# Altium schematic symbol library other_modules.SchLib: 4 symbols
Pins are listed as number, name and electrical type; pins without a type are passive.

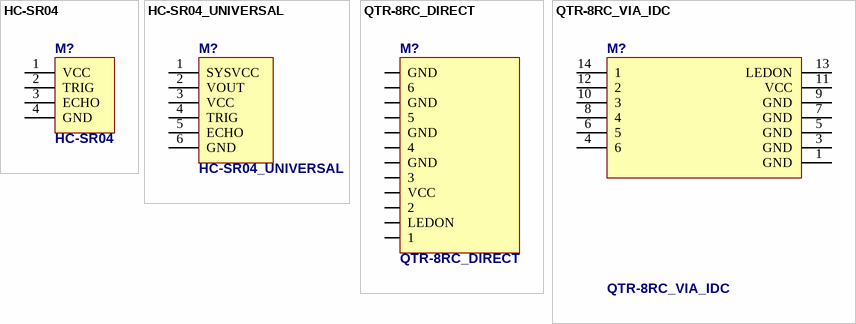
[diagram p0: symbols HC-SR04 to QTR-8RC_VIA_IDC]

## HC-SR04
designator M?
footprint HC-SR04
pins: 1 VCC (power), 2 TRIG (power), 3 ECHO (power), 4 GND (power)

## HC-SR04_UNIVERSAL
designator M?
footprint HC-SR04_UNIV
pins: 1 SYSVCC (power), 2 VOUT (power), 3 VCC (power), 4 TRIG (power), 5 ECHO (power), 6 GND (power)

## QTR-8RC_DIRECT
designator M?
QTR-8RC Reflectance Sensor Array (Pololu item No. 961); Published: 14-Sep-2006
footprint QTR-8RC_SNAPPED_GOLDPIN_VERTICAL (QTR-8RC Reflectance Sensor Array)
pins: 1, 2, 3, 4, 5, 6, GND, GND, GND, GND, LEDON, VCC

## QTR-8RC_VIA_IDC
designator M?
QTR-8RC Reflectance Sensor Array (Pololu item No. 961); Published: 14-Sep-2006
footprint QTR-8RC_SNAPPED_IDC_1 (QTR-8RC Reflectance Sensor Array)
footprint QTR-8RC_SNAPPED_IDC_2 (QTR-8RC Reflectance Sensor Array)
pins: 1 GND, 3 GND, 4 6, 5 GND, 6 5, 7 GND, 8 4, 9 GND, 10 3, 11 VCC, 12 2, 13 LEDON, 14 1
1 alternate drawing of the same symbol